# Altium schematic symbol library MC34063ADRJR.SchLib: 1 symbol
Pins are listed as number, name and electrical type; pins without a type are passive.

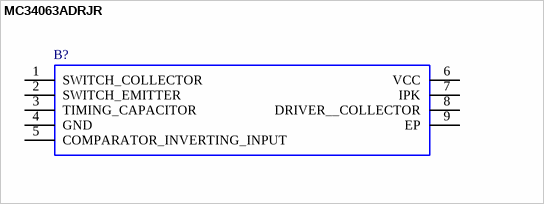
[diagram p0: symbol MC34063ADRJR]

## MC34063ADRJR
designator B?
Texas Instruments MC34063ADRJR, Inverting, Step-Down/Up Buck Boost Switching Regulator, 1.5A, Adjustable; Geometry.Height: 0.8mm; Manufacturer_Name: Texas Instruments; Manufacturer_Part_Number: MC34063ADRJR; Mouser Part Number: 595-MC34063ADRJR; Mouser Price/Stock: https://www.mouser.co.uk/ProductDetail/Texas-Instruments/MC34063ADRJR?qs=qRemG2J%252Bg%2FV%252BInxBdda5Jw%3D%3D; Arrow Part Number: MC34063ADRJR; Arrow Price/Stock: https://www.arrow.com/en/products/mc34063adrjr/texas-instruments?region=nac; Mouser Testing Part Number: *; Mouser Testing Price/Stock: *; Datasheet Link: http://www.ti.com/lit/gpn/mc34063a
footprint MC34063ADRJR
pins: 1 SWITCH_COLLECTOR, 2 SWITCH_EMITTER, 3 TIMING_CAPACITOR, 4 GND, 5 COMPARATOR_INVERTING_INPUT, 6 VCC, 7 IPK, 8 DRIVER__COLLECTOR, 9 EP